# Altium schematic symbol library IC-BL.SchLib: 3 symbols
Pins are listed as number, name and electrical type; pins without a type are passive.

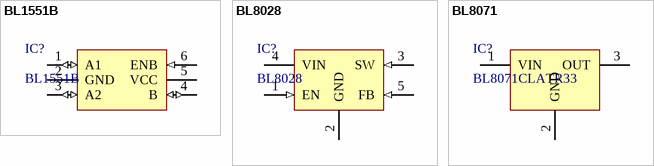
[diagram p0: symbols BL1551B to BL8071]

## BL1551B
designator IC?
SPDT模拟开关; Manufacturer_Name: BL(上海贝岭); Manufacturer_Part_Number: BL1551B; LCSC: C2944066; ComponentLink1Description: Datasheet; ComponentLink1URL: https://item.szlcsc.com/3329605.html
footprint SC-70-6 (SC-70-6(SOT-363))
pins: 1 A1 (io), 2 GND (power), 3 A2 (io), 4 B (io), 5 VCC (power), 6 ENB (in)

## BL8028
designator IC?
DC-DC 芯片; Manufacturer_Name: BL(上海贝岭); Manufacturer_Part_Number: BL8028
footprint SOT23-5 (SOT23, 5-Leads, Body 2.90x2.80mm, Pitch 0.95mm, IPC Medium Density)
pins: 1 EN (in), 2 GND (power), 3 SW (in), 4 VIN (power), 5 FB (in)

## BL8071
designator IC?, comment BL8071CLATR33
LDO 芯片; Manufacturer_Name: BL(上海贝岭); Manufacturer_Part_Number: BL8071CLATR33; LCSC: C401677
footprint SOT223
pins: 1 VIN (power), 2 GND (power), 3 OUT (power)